# Altium footprint library pcb.PcbLib: 1 footprints
Each footprint in its own frame and in the unit in brackets; x right, y up, seen from the top. Pads: shape width x height; smd on the part's side, far side on the other; paste and mask are expansions set on the pad; w line width, h text height; cw(c..) or ccw(c..) is an arc to the next point about the centre after c.
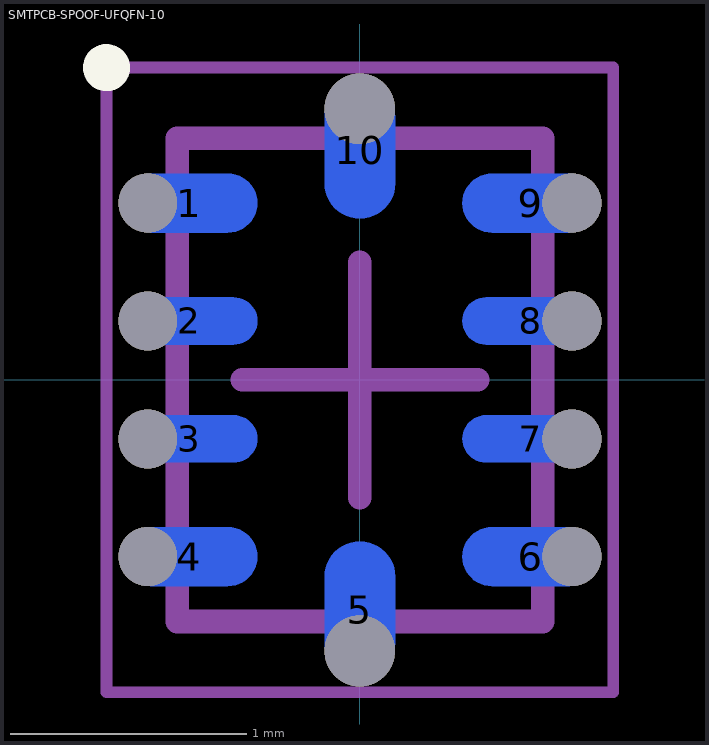
[diagram p0: the footprint, top view; thin cyan lines are the x and y axes]

## SMTPCB-SPOOF-UFQFN-10 [mm] "QFN, 10-Leads, Body 1.50x2.00mm, Pitch 0.50mm, IPC High Density"
height 0.6
pads (10):
  oval 0.58x0.25 smd far side: 1(-0.725,0.75) 4(-0.725,-0.75) 6(0.725,-0.75) 9(0.725,0.75)
  oval 0.58x0.2 smd far side: 2(-0.725,0.25) 3(-0.725,-0.25) 7(0.725,-0.25) 8(0.725,0.25)
  oval 0.3x0.58 smd far side: 5(0,-0.975) 10(0,0.975)
via 0.9,0.75 diameter 0.25 hole 0.25
via 0.9,0.25 diameter 0.25 hole 0.25
via 0.9,-0.25 diameter 0.25 hole 0.25
via 0.9,-0.75 diameter 0.25 hole 0.25
via -0.9,-0.75 diameter 0.25 hole 0.25
via -0.9,-0.25 diameter 0.25 hole 0.25
via -0.9,0.25 diameter 0.25 hole 0.25
via -0.9,0.75 diameter 0.25 hole 0.25
via 0,1.15 diameter 0.3 hole 0.3
via 0,-1.15 diameter 0.3 hole 0.3
Top Overlay:
  circle w0.1: c-1.075,1.325 r0.05
Top Solder:
  drawing of 10 lines, arcs and shapes, not listed
Mechanical 13:
  lines w0.1: -0.775,-1.025 -0.775,1.025 0.775,1.025 0.775,-1.025 -0.775,-1.025
Mechanical 15:
  lines w0.05: -1.075,-1.325 -1.075,1.325 1.075,1.325 1.075,-1.325 -1.075,-1.325
  lines w0.1: -0.5,0 0.5,0 ; 0,-0.5 0,0.5
Multi-Layer:
  drawing of 10 lines, arcs and shapes, not listed